# EAGLE library part FPC-45WAY (library pimoroni-fpc)
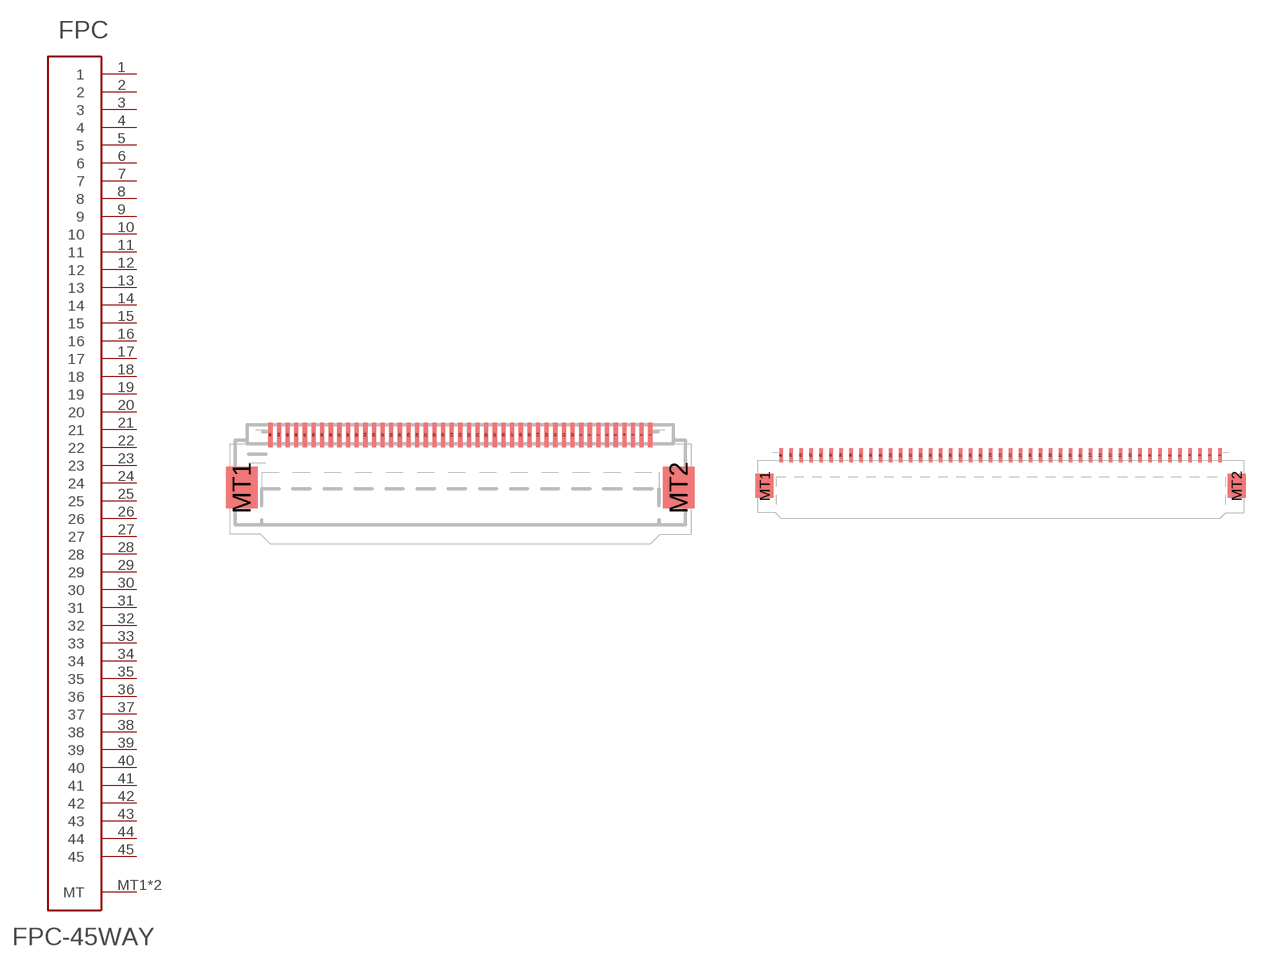
[diagram p40: symbol with the pads of FPC-0.5MM-45WAY; footprints FPC-0.5MM-45WAY, FPC-1.0MM-45WAY]

Designator prefix FPC

## FPC-45WAY0.5  [FPC-0.5MM-45WAY]
1  1
2  2
3  3
4  4
5  5
6  6
7  7
8  8
9  9
10  10
11  11
12  12
13  13
14  14
15  15
16  16
17  17
18  18
19  19
20  20
21  21
22  22
23  23
24  24
25  25
26  26
27  27
28  28
29  29
30  30
31  31
32  32
33  33
34  34
35  35
36  36
37  37
38  38
39  39
40  40
41  41
42  42
43  43
44  44
45  45
MT1  MT
MT2  MT

## FPC-45WAY1.0  [FPC-1.0MM-45WAY]
Pads as for FPC-0.5MM-45WAY

## Footprint FPC-0.5MM-45WAY (pad centres in mm)
smd 0.24 x 1.4: 1 11,0.7; 2 10.5,0.7; 3 10,0.7; 4 9.5,0.7; 5 9,0.7; 6 8.5,0.7; 7 8,0.7; 8 7.5,0.7; 9 7,0.7; 10 6.5,0.7; 11 6,0.7; 12 5.5,0.7; 13 5,0.7; 14 4.5,0.7; 15 4,0.7; 16 3.5,0.7; 17 3,0.7; 18 2.5,0.7; 19 2,0.7; 20 1.5,0.7; 21 1,0.7; 22 0.5,0.7; 23 0,0.7; 24 -0.5,0.7; 25 -1,0.7; 26 -1.5,0.7; 27 -2,0.7; 28 -2.5,0.7; 29 -3,0.7; 30 -3.5,0.7; 31 -4,0.7; 32 -4.5,0.7; 33 -5,0.7; 34 -5.5,0.7; 35 -6,0.7; 36 -6.5,0.7; 37 -7,0.7; 38 -7.5,0.7; 39 -8,0.7; 40 -8.5,0.7; 41 -9,0.7; 42 -9.5,0.7; 43 -10,0.7; 44 -10.5,0.7; 45 -11,0.7
smd 1.8 x 2.4: MT1 -12.65,-2.35; MT2 12.65,-2.35

## Footprint FPC-1.0MM-45WAY (pad centres in mm)
smd 0.35 x 1.4: 1 22,0.7; 2 21,0.7; 3 20,0.7; 4 19,0.7; 5 18,0.7; 6 17,0.7; 7 16,0.7; 8 15,0.7; 9 14,0.7; 10 13,0.7; 11 12,0.7; 12 11,0.7; 13 10,0.7; 14 9,0.7; 15 8,0.7; 16 7,0.7; 17 6,0.7; 18 5,0.7; 19 4,0.7; 20 3,0.7; 21 2,0.7; 22 1,0.7; 23 0,0.7; 24 -1,0.7; 25 -2,0.7; 26 -3,0.7; 27 -4,0.7; 28 -5,0.7; 29 -6,0.7; 30 -7,0.7; 31 -8,0.7; 32 -9,0.7; 33 -10,0.7; 34 -11,0.7; 35 -12,0.7; 36 -13,0.7; 37 -14,0.7; 38 -15,0.7; 39 -16,0.7; 40 -17,0.7; 41 -18,0.7; 42 -19,0.7; 43 -20,0.7; 44 -21,0.7; 45 -22,0.7
smd 1.8 x 2.4: MT1 -23.65,-2.35; MT2 23.65,-2.35